# Altium footprint library KEYSTONE_7790.PcbLib: 1 footprints
Each footprint in its own frame and in the unit in brackets; x right, y up, seen from the top. Pads: shape width x height; smd on the part's side, far side on the other; paste and mask are expansions set on the pad; w line width, h text height; cw(c..) or ccw(c..) is an arc to the next point about the centre after c.
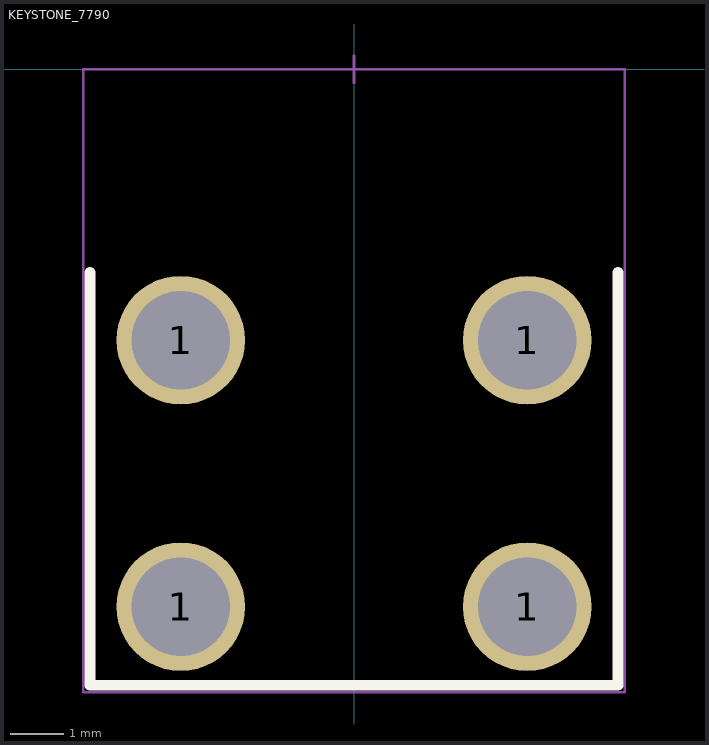
[diagram p0: the footprint, top view; thin cyan lines are the x and y axes]

## KEYSTONE_7790 [mm]
pads (4):
  round 2.413 hole 1.85: 1(-3.25,-10.08) 1(-3.25,-5.08) 1(3.25,-10.08) 1(3.25,-5.08)
Top Overlay:
  lines w0.2: -4.953,-3.81 -4.953,-11.557 4.953,-11.557 4.953,-3.81
Mechanical 15:
  lines w0.05: 0,-0.254 0,0.254 ; -5.08,-11.684 -5.08,0 5.08,0 5.08,-11.684 -5.08,-11.684
3D body "keystone-PN7790.STEP": height 7.92, standoff -5.08, extent -4.817,-11.509 4.817,0